# EAGLE library part B3W-9000-RG2N (library Switch_B3U_Update)
SWITCH TACTILE SPST-NO 0.05A 24V Manufacturer's datasheet <https://omronfs.omron.com/en_US/ecb/products/pdf/en-b3w-9.pdf>
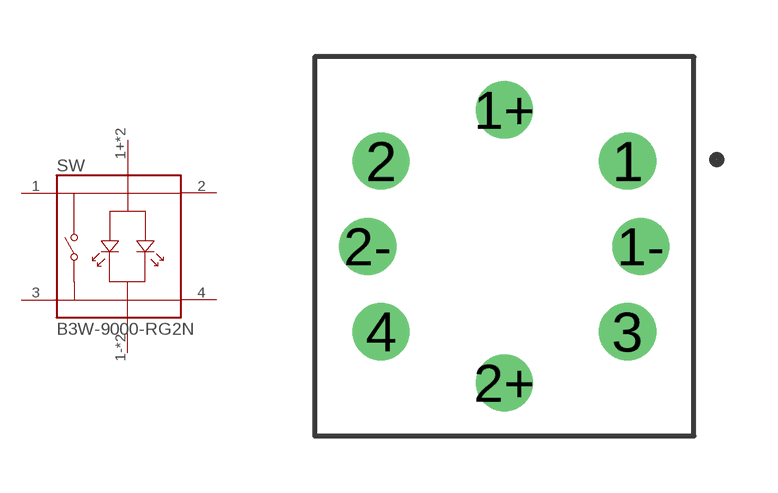
[diagram p0: symbol with the pads of B3W-9000-RG2N; footprint B3W-9000-RG2N]

Designator prefix SW

## B3W-9000-RG2N (CREATED_BY: PCBLayout.com; DIGIKEY_PARTNO: SW1038-ND; MANUFACTURER: Omron Electronics Inc-EMC Div; MPN: B3W-9000-RG2N)  [B3W-9000-RG2N]
1  1  pas
1+  +  pas
1-  -  pas
2  2  pas
2+  +  pas
2-  -  pas
3  3  pas
4  4  pas

## Footprint B3W-9000-RG2N (pad centres in mm)
drill 1: 1 3.25,2.25; 1+ 0,3.6; 1- 3.6,0; 2 -3.25,2.25; 2+ 0,-3.6; 2- -3.6,0; 3 3.25,-2.25; 4 -3.25,-2.25